# EAGLE library part MCP4152-104E_SN (library MCP4152-104E_SN)
Digital Potentiometer 256 Step 100kOhm Source: Datasheet <http://ww1.microchip.com/downloads/en/DeviceDoc/22060b.pdf>
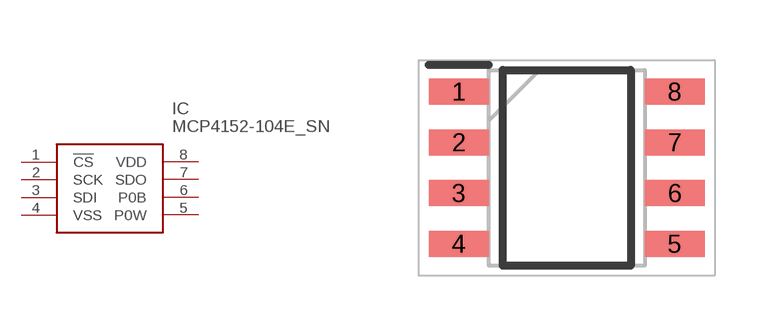
[diagram p0: symbol with the pads of SOIC127P600X175-8N; footprint SOIC127P600X175-8N]

Designator prefix IC

## MCP4152-104E_SN (Description: Digital Potentiometer 256 Step 100kOhm; Height: 1.75mm; Manufacturer_Name: Microchip; Manufacturer_Part_Number: MCP4152-104E/SN; Mouser_Part_Number: 579-MCP4152-104E/SN; Mouser_Price-Stock: https://www.mouser.co.uk/ProductDetail/Microchip-Technology/MCP4152-104E-SN?qs=hH%252BOa0VZEiB7bI70qkcaWA%3D%3D)  [SOIC127P600X175-8N]
1  !CS
2  SCK
3  SDI
4  VSS
5  P0W
6  P0B
7  SDO
8  VDD

## Footprint SOIC127P600X175-8N (pad centres in mm)
MCP4152-104E/SN
smd 1.5 x 0.65: 1 -2.7,1.905; 2 -2.7,0.635; 3 -2.7,-0.635; 4 -2.7,-1.905; 5 2.7,-1.905; 6 2.7,-0.635; 7 2.7,0.635; 8 2.7,1.905